# EAGLE library part DS3231_RTC (library PiB)
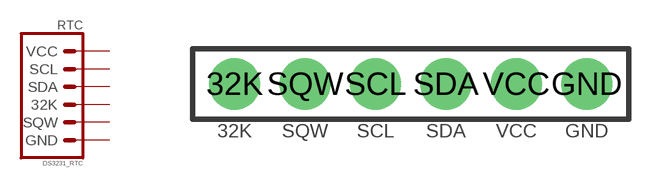
[diagram p8: symbol with the pads of CONNECTOR_RTC-DS3231; footprint CONNECTOR_RTC-DS3231]

Designator prefix RTC

## DS3231_RTC (CREATOR: MrSwirlyEyes; DATASHEET: N/A; DATASHEET_BATT: https://media.digikey.com/pdf/Data%20Sheets/Panasonic%20Inustrial/CR_Series.pdf; DATASHEET_CONNECTOR: http://sullinscorp.com/catalogs/101_PAGE114-115_.100_FEMALE_HDR.pdf; DIST: Amazon; DISTLINK: https://www.amazon.com/Donop-DS3231-AT24C32-precision-Arduino/dp/B00HCB7VYS; DISTLINK_BATT: https://www.digikey.com/products/en/battery-products/batteries-non-rechargeable-primary/90?k=P189-ND; DISTLINK_CONNECTOR: https://www.digikey.com/products/en/connectors-interconnects/rectangular-connectors-headers-receptacles-female-sockets/315?k=S7004-ND; DISTPN: N/A; DISTPN_BATT: P189-ND; DISTPN_CONNECTOR: S7004-ND; DIST_BATT: Digikey; DIST_CONNECTOR: Digikey; MFR: N/A; MFR_BATT: Panasonic - BSG; MFR_CONNECTOR: Sullins Connector Solutions; MPN: N/A; MPN_BATT: CR2032; MPN_CONNECTOR: PPTC061LFBN-RC; TESTED: NO; VALUE: DS3231)  [CONNECTOR_RTC-DS3231]
32K  32K  nc
GND  GND  pas
SCL  SCL
SDA  SDA
SQW  SQW  nc
VCC  VCC  pas

## DS3231_RTC_PTH_VERT-FEMALE_2.54MM (DATASHEET: https://datasheets.maximintegrated.com/en/ds/DS3231.pdf; DATASHEET_CONNECTOR: xPxCyyyLFBN-RC Drawing; DIST: Amazon; DISTLINK: https://www.amazon.com/Donop-DS3231-AT24C32-precision-Arduino/dp/B00HCB7VYS; DISTLINK_CONNECTOR: https://www.digikey.com/products/en?keywords=PPTC061LFBN-RC; DISTPN: B00HCB7VYS; DISTPN_CONNECTOR: S7004-ND; DIST_CONNECTOR: Digikey; MFR: Eztronics Corp; MFR_CONNECTOR: Sullins Connector Solutions; MPN: DS3231; MPN_CONNECTOR: PPTC061LFBN-RC; VALUE: RTC DS3231)  [CONNECTOR_RTC-DS3231]
Pads as for CONNECTOR_RTC-DS3231

## Footprint CONNECTOR_RTC-DS3231 (pad centres in mm)
drill 1 pad 1.85: 32K -6.35,0; GND 6.35,0; SCL -1.27,0; SDA 1.27,0; SQW -3.81,0; VCC 3.81,0